# Altium schematic symbol library Linear Regulator GOST.SchLib: 16 symbols
Pins are listed as number, name and electrical type; pins without a type are passive.

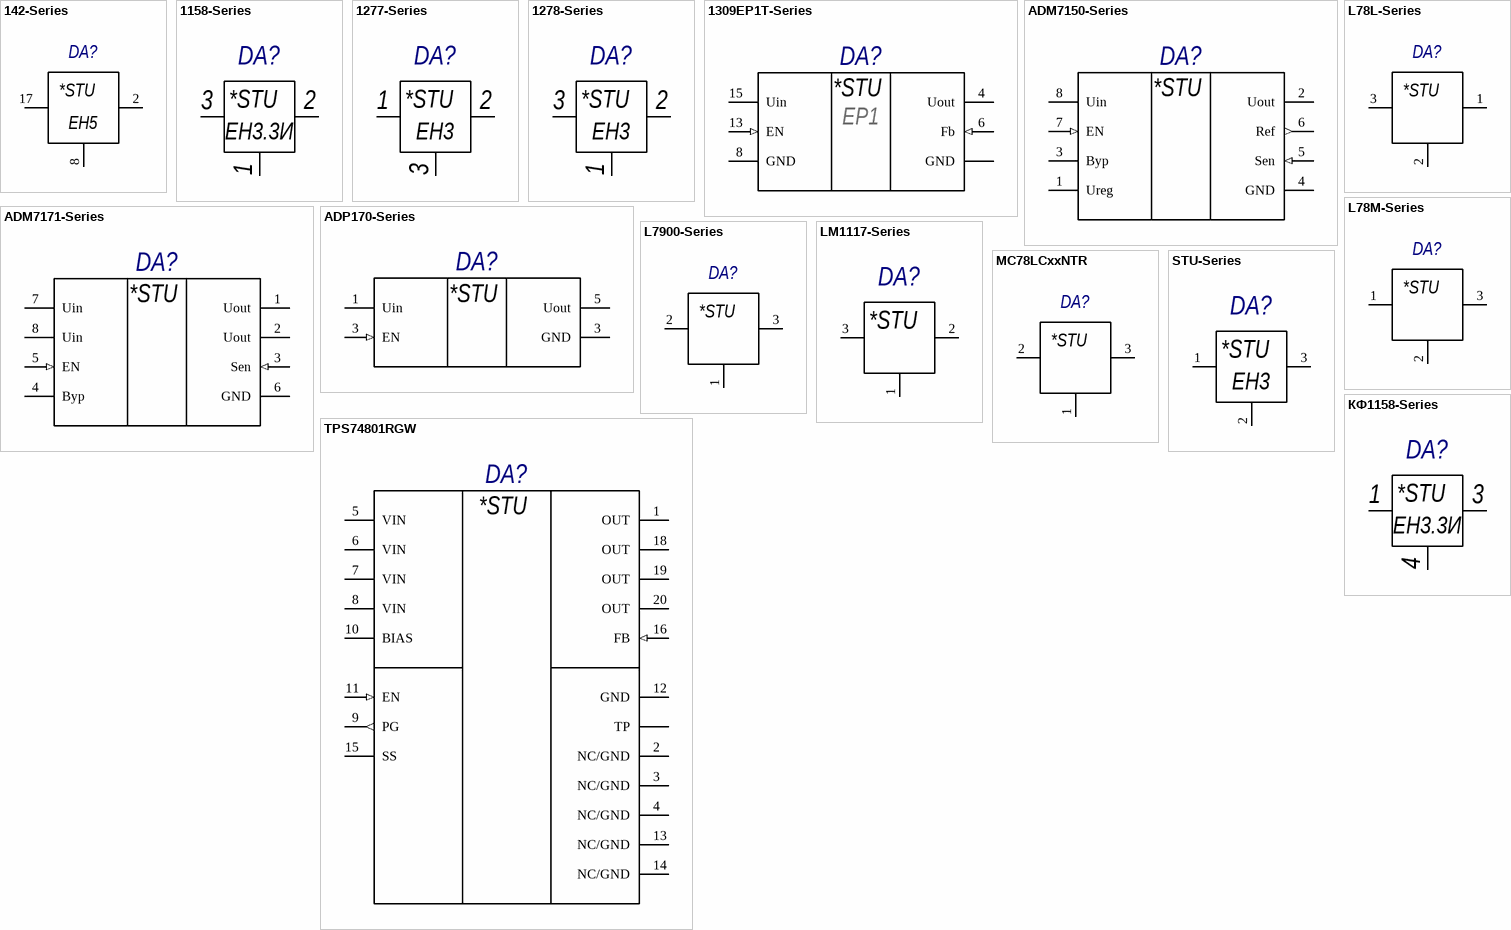
[diagram p0: symbols 142-Series to КФ1158-Series]

## 142-Series
designator DA?
RegType: ЕН5; Published: 13.05.2010; Publisher: Andrew Danich; Type: Микросхема
pins: 2 Out "Выход", 8 GND "Общий", 17 In "Вход"
text: *STU

## 1158-Series
designator DA?
RegType: EH3.3И; Type: Микросхема; Published: 13.05.2010; Publisher: Viktor Klishin
pins: 1 "Выход", 2 "Общий", 3 In "Вход"
text: *STU

## 1277-Series
designator DA?
RegType: ЕН3; Published: 08.10.2014; Publisher: Andrew Danich; Type: Микросхема
pins: 1 In "Вход", 2 GND "Общий", 3 Out "Выход"
text: *STU

## 1278-Series
designator DA?
RegType: ЕН3; Published: 24.06.2014; Publisher: Andrew Danich; Type: Микросхема
pins: 1 Out "Выход", 2 In "Вход", 3 GND "Общий"
text: *STU

## 1309ЕР1Т-Series
designator DA?
RegType: ЕР1; Published: 21.01.2015; Publisher: Andrew Danich; Type: Микросхема
pins: 4 Uout (power) "Выход", 6 Fb (in) "Вход обратной связи", 8 GND (power) "Общ", 13 EN (in) "Вход включения", 15 Uin (power), 18 GND (power) "Общ (Подложка)"
text: *STU

## ADM7150-Series
designator DA?
Published: 31.07.2015; Publisher: Andrew Danich; Type: Микросхема
pins: 1 Ureg, 2 Uout (power) "Выход", 3 Byp, 4 GND (power) "Общ", 5 Sen (in), 6 Ref (out), 7 EN (in) "Вход включения", 8 Uin (power)
text: *STU

## ADM7171-Series
designator DA?
Published: 31.07.2015; Publisher: Andrew Danich; Type: Микросхема
pins: 1 Uout (power) "Выход", 2 Uout (power) "Выход", 3 Sen (in), 4 Byp, 5 EN (in) "Вход включения", 6 GND (power) "Общ", 7 Uin (power), 8 Uin (power)
text: *STU

## ADP170-Series
designator DA?
Published: 31.07.2015; Publisher: Andrew Danich; Type: Микросхема
pins: 1 Uin (power), 3 EN (in) "Вход включения", 3 GND (power) "Общ", 5 Uout (power) "Выход"
text: *STU

## L78L-Series
designator DA?
Published: 13.08.2015; Publisher: Andrew Danich; Type: Микросхема
pins: 1 Out (power), 2 GND (power), 3 In (power)
text: *STU

## L78M-Series
designator DA?
Published: 13.08.2015; Publisher: Andrew Danich; Type: Микросхема
pins: 1 In, 2 GND, 3 Out
text: *STU

## L7900-Series
designator DA?
Published: 13.08.2015; Publisher: Andrew Danich; Type: Микросхема
pins: 1 GND, 2 In, 3 Out
text: *STU

## LM1117-Series
designator DA?
Published: 13.08.2015; Publisher: Andrew Danich; Type: Микросхема
pins: 1 Adj/GND, 2 Out, 3 In
text: *STU

## MC78LCxxNTR
designator DA?
Published: 13.08.2015; Publisher: Andrew Danich; Type: Микросхема
pins: 1 GND, 2 In, 3 Out
text: *STU

## STU-Series
designator DA?
RegType: ЕН3; Published: 28.05.2014; Publisher: Andrew Danich; Type: Микросхема
pins: 1 In "Вход", 2 GND "Общий", 3 Out "Выход"
text: *STU

## TPS74801RGW
designator DA?
Published: 23.08.2015; Publisher: Andrew Danich; Type: Микросхема
pins: 1 OUT (power), 2 NC/GND "GND", 3 NC/GND "GND", 4 NC/GND "GND", 5 VIN (power), 6 VIN (power), 7 VIN (power), 8 VIN (power), 9 PG (out), 10 BIAS, 11 EN (in), 12 GND (power), 13 NC/GND "GND", 14 NC/GND "GND", 15 SS, 16 FB (in), 18 OUT (power), 19 OUT (power), 20 OUT (power), 21 TP "GND"
text: *STU

## КФ1158-Series
designator DA?
RegType: EH3.3И; Type: Микросхема; Published: 10.10.2014; Publisher: Andrew Danich
pins: 1 "Вход", 2 "Общий", 3 "Выход"
text: *STU; 4